# Altium schematic symbol library CONN-3.SchLib: 1 symbol
Pins are listed as number, name and electrical type; pins without a type are passive.

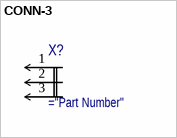
[diagram p0: symbol CONN-3]

## CONN-3
designator X?
pins: 1, 2, 3